# Altium schematic symbol library MainLib.SchLib: 4 symbols
Pins are listed as number, name and electrical type; pins without a type are passive.

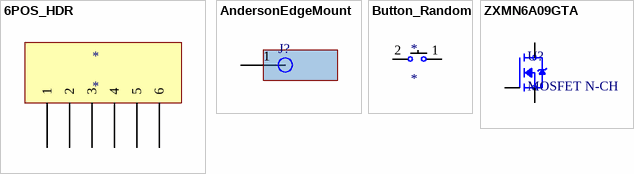
[diagram p0: symbols 6POS_HDR to ZXMN6A09GTA]

## 6POS_HDR
designator *
footprint 6POS_HDR (6 Position 0.1 Pitch Header)
pins: 1, 2, 3, 4, 5, 6

## AndersonEdgeMount
designator J?
Edge Mounted Anderson Connector
footprint AndersonEdgeMount (An edge mounted anderson connector!)
pins: 1

## Button_Random
designator *
pins: 1, 2

## ZXMN6A09GTA
designator U?, comment MOSFET N-CH
footprint ZXMN6A09GTA (N-Channel MOSFET 60V 5.4A)
pins: 1, 2, 3